# Altium footprint library DFN-12_EP_3x3_0.45.PcbLib: 1 footprints
Each footprint in its own frame and in the unit in brackets; x right, y up, seen from the top. Pads: shape width x height; smd on the part's side, far side on the other; paste and mask are expansions set on the pad; w line width, h text height; cw(c..) or ccw(c..) is an arc to the next point about the centre after c.
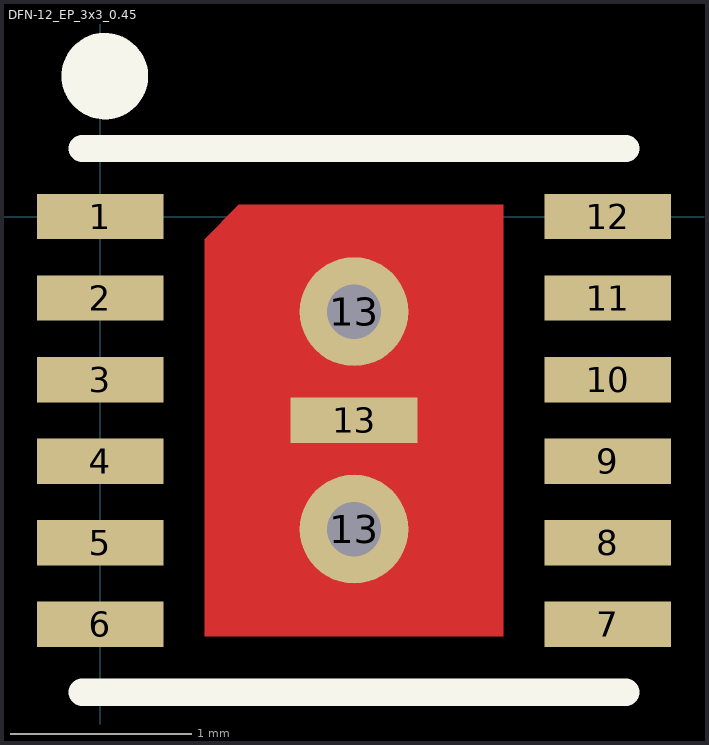
[diagram p0: the footprint, top view; thin cyan lines are the x and y axes]

## DFN-12_EP_3x3_0.45 [mm] "12-Pin DFN with Exposed Pad 3x3mm 0.45mm Pitch"
pads (15):
  rect 0.7x0.25 smd: 1(0,0) 2(0,-0.45) 3(0,-0.9) 4(0,-1.35) 5(0,-1.8) 6(0,-2.25) 7(2.8,-2.25) 8(2.8,-1.8) 9(2.8,-1.35) 10(2.8,-0.9) 11(2.8,-0.45) 12(2.8,0) 13(1.4,-1.125)
  round 0.6 hole 0.3: 13(1.4,-1.725) 13(1.4,-0.525)
Top Layer:
  region: 0.575,-2.315 2.225,-2.315 2.225,0.065 0.765,0.065 0.575,-0.125
Top Overlay:
  circle w0.254: c0.025,0.775 r0.112
  lines w0.15: -0.1,-2.625 2.9,-2.625 ; -0.1,0.375 2.9,0.375
3D body "DFN-12_EP_3x3_0.45.step": height 0.77, standoff 0, extent -0.1,-2.615 2.9,0.365